# Altium footprint library 1734354.PcbLib: 1 footprints
Each footprint in its own frame and in the unit in brackets; x right, y up, seen from the top. Pads: shape width x height; smd on the part's side, far side on the other; paste and mask are expansions set on the pad; w line width, h text height; cw(c..) or ccw(c..) is an arc to the next point about the centre after c.
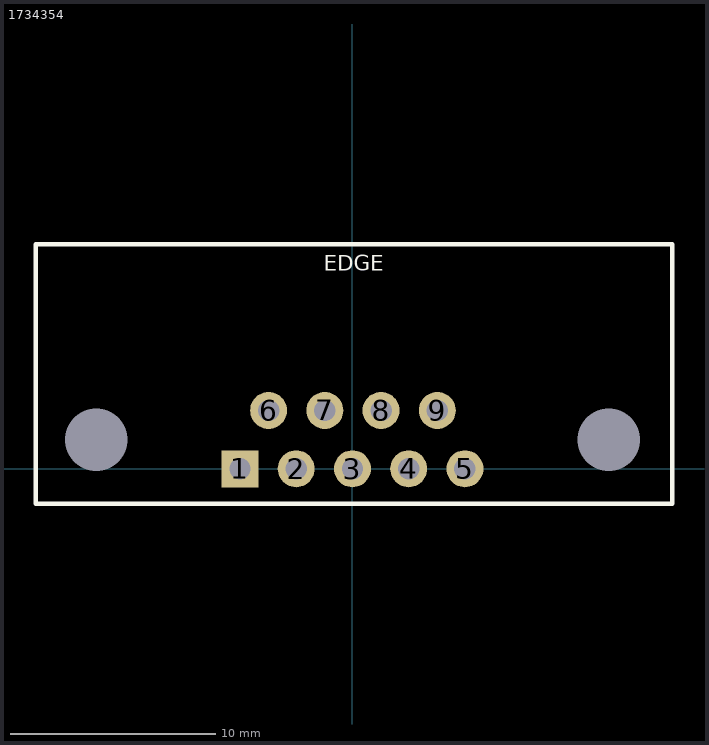
[diagram p0: the footprint, top view; thin cyan lines are the x and y axes]

## 1734354 [mil]
pads (11):
  rect 71x71 hole 41: 1(-216,0)
  round 71 hole 41: 2(-108,0) 3(0,0) 4(108,0) 5(216,0) 6(-161,112) 7(-53,112) 8(55,112) 9(163,112)
  round 0 hole 120: MH(-492,56) MH(492,56)
Top Overlay:
  lines w8: -608,-67 -608,431 614,431 614,-67 -608,-67
  text "EDGE" at -55,380 h30
3D body: height 496.06, standoff -157.46, extent -603.3,-58.2 609.3,667